# Altium schematic symbol library ESP32-Relay-Module.SchLib: 37 symbols
Pins are listed as number, name and electrical type; pins without a type are passive.

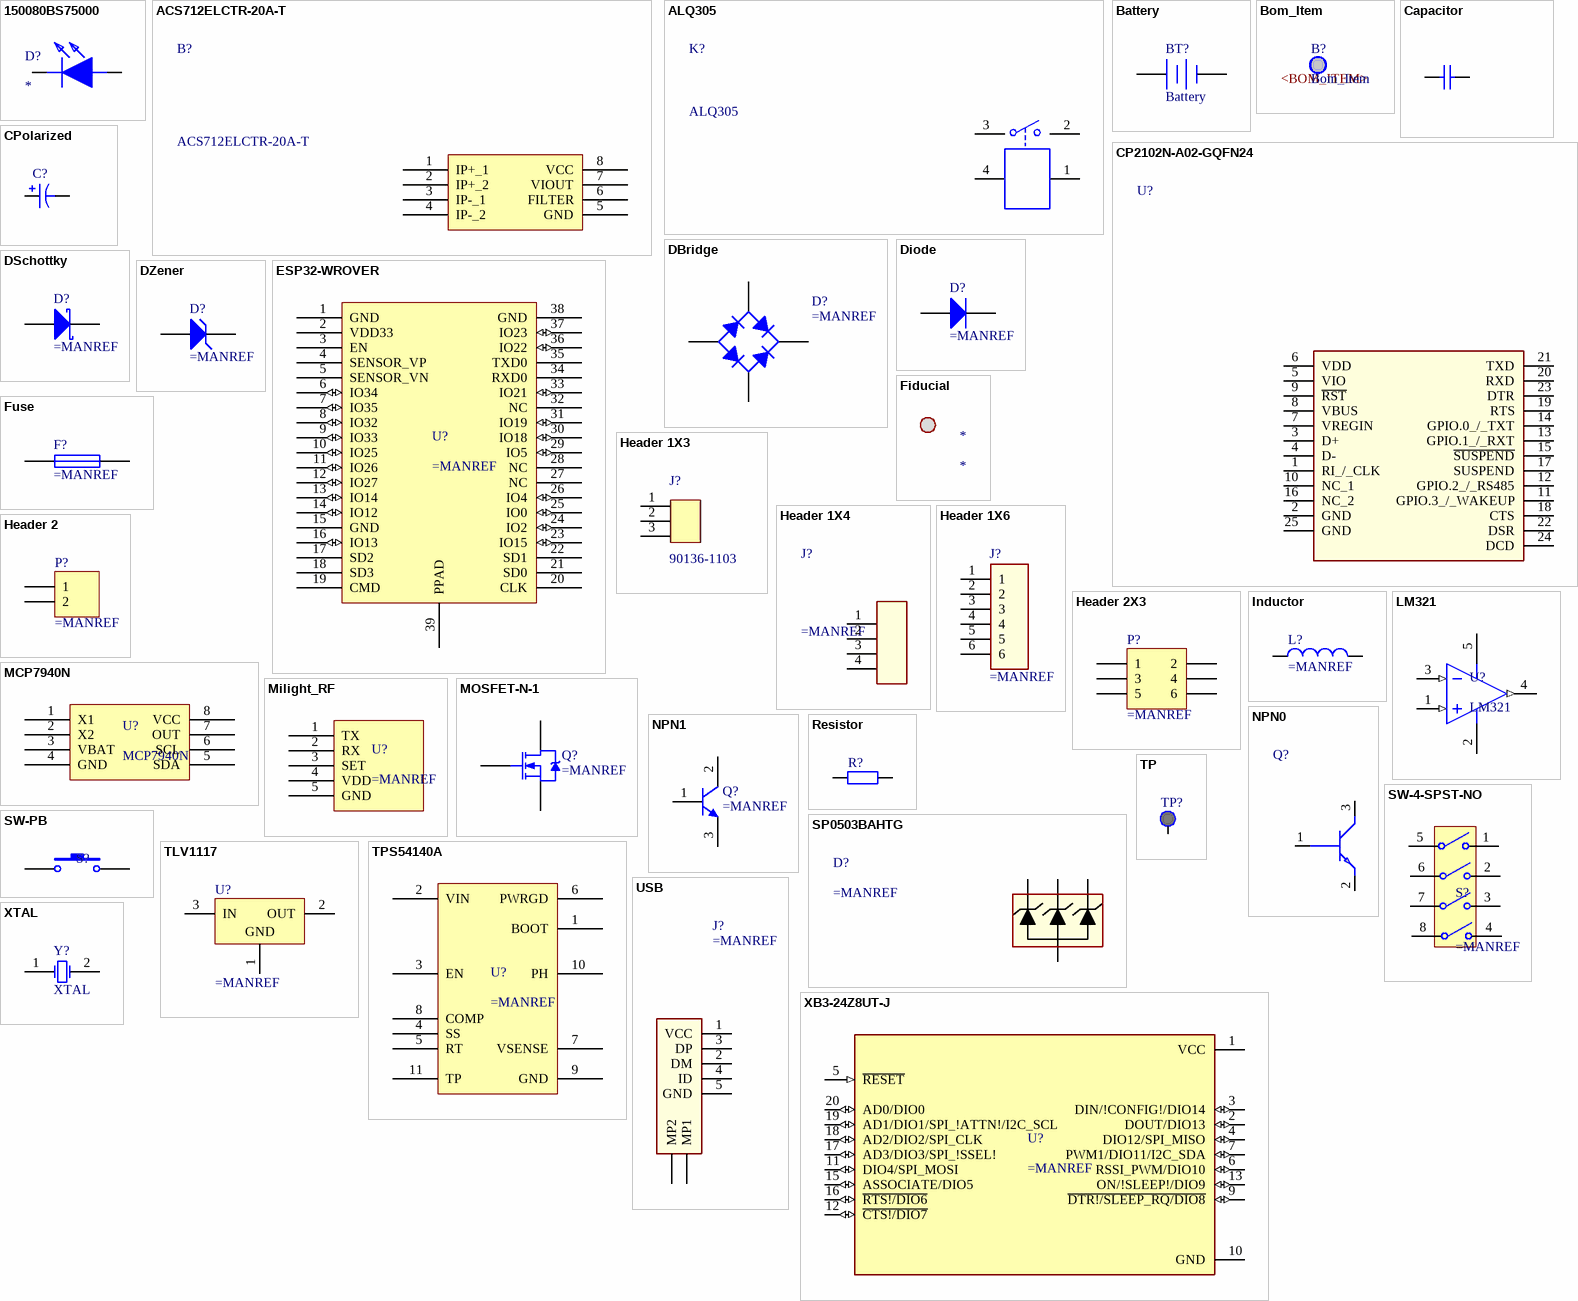
[diagram p0: symbols 150080BS75000 to XTAL]

## 150080BS75000
designator D?
pins: 1 K, 2 A

## ACS712ELCTR-20A-T
designator B?
pins: 1 IP+_1, 2 IP+_2, 3 IP-_1, 4 IP-_2, 5 GND, 6 FILTER, 7 VIOUT, 8 VCC

## ALQ305
designator K?
pins: 1 COIL_1, 2 NO, 3 COM, 4 COIL_2

## Battery
designator BT?
Multicell Battery
pins: 1 +, 2 -

## Bom_Item
designator B?  (mechanical)
text: <BOM_ITEM>

## Capacitor
designator C?  (value not drawn)
pins: 1, 2

## CP2102N-A02-GQFN24
designator U?
pins: 1 RI_/_CLK, 2 GND, 3 D+, 4 D-, 5 VIO, 6 VDD, 7 VREGIN, 8 VBUS, 9 ~{RST}, 10 NC_1, 11 GPIO.3_/_WAKEUP, 12 GPIO.2_/_RS485, 13 GPIO.1_/_RXT, 14 GPIO.0_/_TXT, 15 ~{SUSPEND}, 16 NC_2, 17 SUSPEND, 18 CTS, 19 RTS, 20 RXD, 21 TXD, 22 DSR, 23 DTR, 24 DCD, 25 GND

## CPolarized
designator C?, comment Polarized Capacitor  (value not drawn)
pins: 1, 2
1 alternate drawing of the same symbol

## DBridge
designator D?
pins: 1 K, 2 C, 3 A, 4 C

## Diode
designator D?
pins: 1 A, 2 K

## DSchottky
designator D?
pins: 1 A, 2 K

## DZener
designator D?
pins: 1 A, 2 K

## ESP32-WROVER
designator U?
pins: 1 GND (power), 2 VDD33 (power), 3 EN, 4 SENSOR_VP, 5 SENSOR_VN, 6 IO34 (io), 7 IO35 (io), 8 IO32 (io), 9 IO33 (io), 10 IO25 (io), 11 IO26 (io), 12 IO27 (io), 13 IO14 (io), 14 IO12 (io), 15 GND, 16 IO13 (io), 17 SD2, 18 SD3, 19 CMD, 20 CLK, 21 SD0, 22 SD1, 23 IO15 (io), 24 IO2 (io), 25 IO0 (io), 26 IO4 (io), 27 NC, 28 NC, 29 IO5 (io), 30 IO18 (io), 31 IO19 (io), 32 NC, 33 IO21 (io), 34 RXD0, 35 TXD0, 36 IO22 (io), 37 IO23 (io), 38 GND (power), 39 PPAD

## Fiducial
designator *

## Fuse
designator F?
pins: 1, 2

## Header 1X3
designator J?, comment 90136-1103
pins: 1, 2, 3

## Header 1X4
designator J?
pins: 1, 2, 3, 4

## Header 1X6
designator J?
pins: 1, 2, 3, 4, 5, 6

## Header 2
designator P?
pins: 1, 2

## Header 2X3
designator P?
pins: 1, 2, 3, 4, 5, 6

## Inductor
designator L?
pins: 1, 2

## LM321
designator U?
pins: 1 +IN A (in), 2 -V (power), 3 -IN A (in), 4 OUT A (out), 5 +V (power)

## MCP7940N
designator U?
pins: 1 X1, 2 X2, 3 VBAT, 4 GND, 5 SDA, 6 SCL, 7 OUT, 8 VCC

## Milight_RF
designator U?
pins: 1 TX, 2 RX, 3 SET, 4 VDD, 5 GND

## MOSFET-N-1
designator Q?
pins: 1 G, 3 S, 4 D

## NPN0
designator Q?
pins: 1 B, 2 E, 3 C

## NPN1
designator Q?
pins: 1 B, 2 C, 3 E

## Resistor
designator R?  (value not drawn)
pins: 1, 2

## SP0503BAHTG
designator D?
pins: 1, 2, 3, 4

## SW-4-SPST-NO
designator S?
pins: 1, 2, 3, 4, 5, 6, 7, 8

## SW-PB
designator S?
pins: 1, 2

## TLV1117
designator U?
pins: 1 GND (power), 2 OUT (power), 3 IN (power)

## TP
designator TP?, comment Test Point  (value not drawn)  (no BOM)
pins: 1

## TPS54140A
designator U?
pins: 1 BOOT, 2 VIN, 3 EN, 4 SS, 5 RT, 6 PWRGD, 7 VSENSE, 8 COMP, 9 GND, 10 PH, 11 TP

## USB
designator J?
pins: 1 VCC, 2 DM, 3 DP, 4 ID, 5 GND, MP1, MP2

## XB3-24Z8UT-J
designator U?
pins: 1 VCC (power), 2 DOUT/DIO13 (io), 3 DIN/!CONFIG!/DIO14 (io), 4 DIO12/SPI_MISO (io), 5 ~{RESET} (in), 6 RSSI_PWM/DIO10 (io), 7 PWM1/DIO11/I2C_SDA (io), 9 ~{DTR!/SLEEP_RQ/DIO8} (io), 10 GND (power), 11 DIO4/SPI_MOSI (io), 12 ~{CTS!/DIO7} (io), 13 ON/!SLEEP!/DIO9 (io), 15 ASSOCIATE/DIO5 (io), 16 ~{RTS!/DIO6} (io), 17 AD3/DIO3/SPI_!SSEL! (io), 18 AD2/DIO2/SPI_CLK (io), 19 AD1/DIO1/SPI_!ATTN!/I2C_SCL (io), 20 AD0/DIO0 (io)

## XTAL
designator Y?
pins: 1 OSC1, 2 OSC2